# Altium footprint library SJMP_0805.PcbLib: 1 footprints
Each footprint in its own frame and in the unit in brackets; x right, y up, seen from the top. Pads: shape width x height; smd on the part's side, far side on the other; paste and mask are expansions set on the pad; w line width, h text height; cw(c..) or ccw(c..) is an arc to the next point about the centre after c.
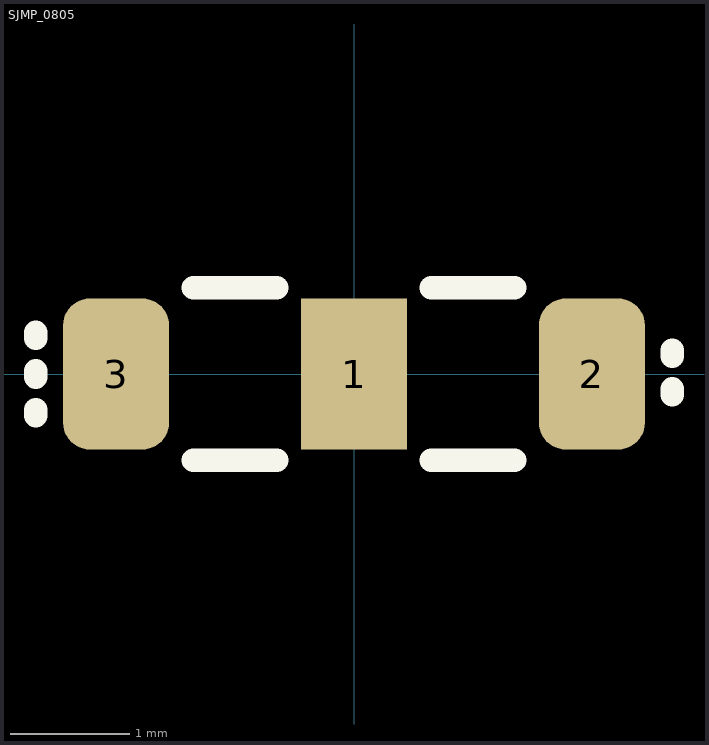
[diagram p0: the footprint, top view; thin cyan lines are the x and y axes]

## SJMP_0805 [mil]
pads (3):
  rect 35x50 smd: 1(0,0)
  rrect50% 35x50 smd: 2(78.74,0) 3(-78.74,0)
Top Overlay:
  lines w7.87: -105.31,-13.78 -105.31,-11.81 ; -105.31,-0.98 -105.31,0.98 ; -105.31,11.81 -105.31,13.78 ; -53.15,-28.54 -25.59,-28.54 ; -53.15,28.54 -25.59,28.54 ; 25.59,-28.54 53.15,-28.54 ; 25.59,28.54 53.15,28.54 ; 105.31,-6.89 105.31,-4.92 ; 105.31,5.91 105.31,7.87
3D body "SMD RLC-0805.STEP": height 16.96, standoff -0.75, extent 0.94,-24.6 79.68,24.61